# EAGLE library part DM3CS-SF (library DM3CS-SF)
Memory Card Connectors 8P R/A SMT MICRO SD HINGE PUSH-PULL Source: Datasheet <https://datasheet.lcsc.com/szlcsc/Hirose-HRS-DM3CS-SF_C202111.pdf>
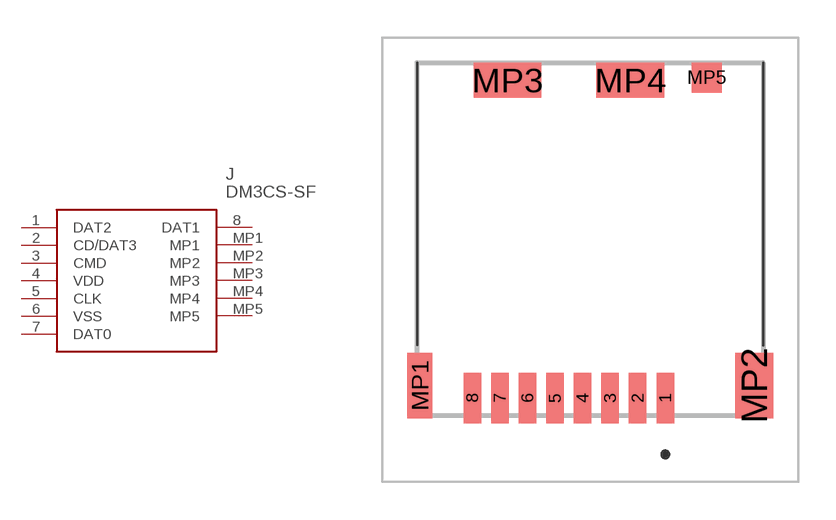
[diagram p0: symbol with the pads of DM3CSSF; footprint DM3CSSF]

Designator prefix J

## DM3CS-SF (Description: Memory Card Connectors 8P R/A SMT MICRO SD HINGE PUSH-PULL; Height: 1.83mm; Manufacturer_Name: Hirose; Manufacturer_Part_Number: DM3CS-SF; Mouser_Part_Number: 798-DM3CSSF; Mouser_Price-Stock: https://www.mouser.co.uk/ProductDetail/Hirose-Connector/DM3CS-SF?qs=tTj%252BmQ3KZwbB9K5zh89Rcw%3D%3D)  [DM3CSSF]
1  DAT2
2  CD/DAT3
3  CMD
4  VDD
5  CLK
6  VSS
7  DAT0
8  DAT1
MP1  MP1
MP2  MP2
MP3  MP3
MP4  MP4
MP5  MP5

## Footprint DM3CSSF (pad centres in mm)
DM3CS-SF-1
smd 0.7 x 2: 1 3,-6.35; 2 1.9,-6.35; 3 0.8,-6.35; 4 -0.3,-6.35; 5 -1.4,-6.35; 6 -2.5,-6.35; 7 -3.6,-6.35; 8 -4.7,-6.35
smd 1 x 2.6: MP1 -6.8,-5.85
smd 1.5 x 2.6: MP2 6.55,-5.85
smd 2.7 x 1.4: MP3 -3.3,6.35; MP4 1.6,6.35
smd 1.2 x 1.2: MP5 4.65,6.45